# Altium footprint library ER-2.PcbLib: 1 footprints
Each footprint in its own frame and in the unit in brackets; x right, y up, seen from the top. Pads: shape width x height; smd on the part's side, far side on the other; paste and mask are expansions set on the pad; w line width, h text height; cw(c..) or ccw(c..) is an arc to the next point about the centre after c.
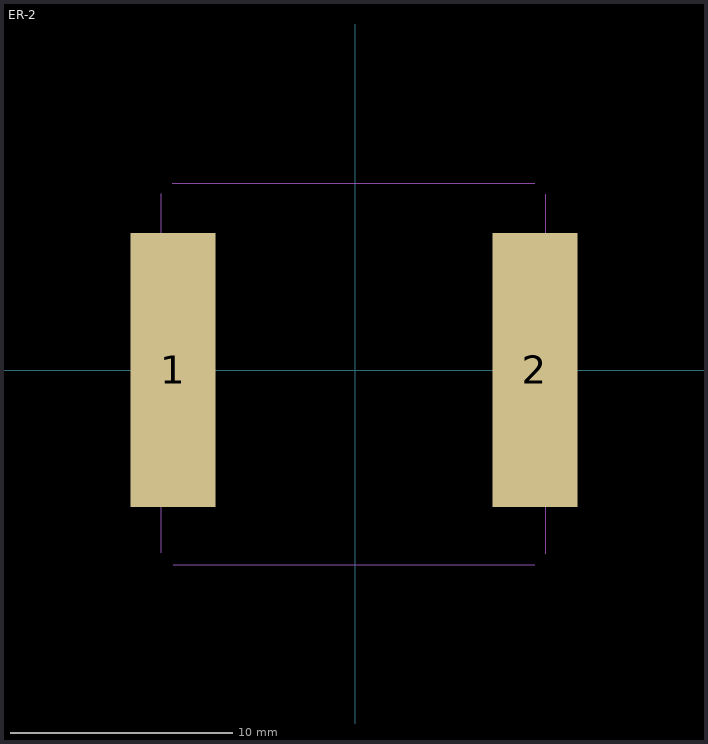
[diagram p0: the footprint, top view; thin cyan lines are the x and y axes]

## ER-2 [mm]
pads (2):
  rect 3.825x12.32 smd: 1(-8.182,0.006) 2(8.071,0.007)
Mechanical 13:
  lines w0: -8.719,-8.203 -8.719,-5.113 -8.718,-5.113 -8.718,7.925 ; -8.217,8.398 8.052,8.398 8.052,8.397 8.066,8.397 ; -8.174,-8.748 8.052,-8.748 ; 8.563,-8.237 8.563,7.9